# EAGLE library part AT45DB321D (library kwoo)
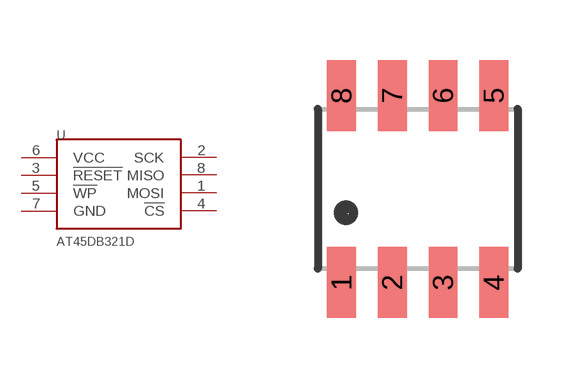
[diagram p35: symbol with the pads of 8-SOIC; footprint 8-SOIC]

Designator prefix U

## AT45DB321D  [8-SOIC]
1  MOSI
2  SCK
3  !RESET
4  !CS
5  !WP
6  VCC
7  GND
8  MISO

## Footprint 8-SOIC (pad centres in mm)
smd 0.72 x 1.78: 1 -1.905,-2.34; 2 -0.635,-2.34; 3 0.635,-2.34; 4 1.905,-2.34; 5 1.905,2.34; 6 0.635,2.34; 7 -0.635,2.34; 8 -1.905,2.34